# Altium integrated library ek-ra8d2_mp - Customer.IntLib: 133 symbols (part 1 of 2)
Pins are listed as number, name and electrical type; pins without a type are passive.

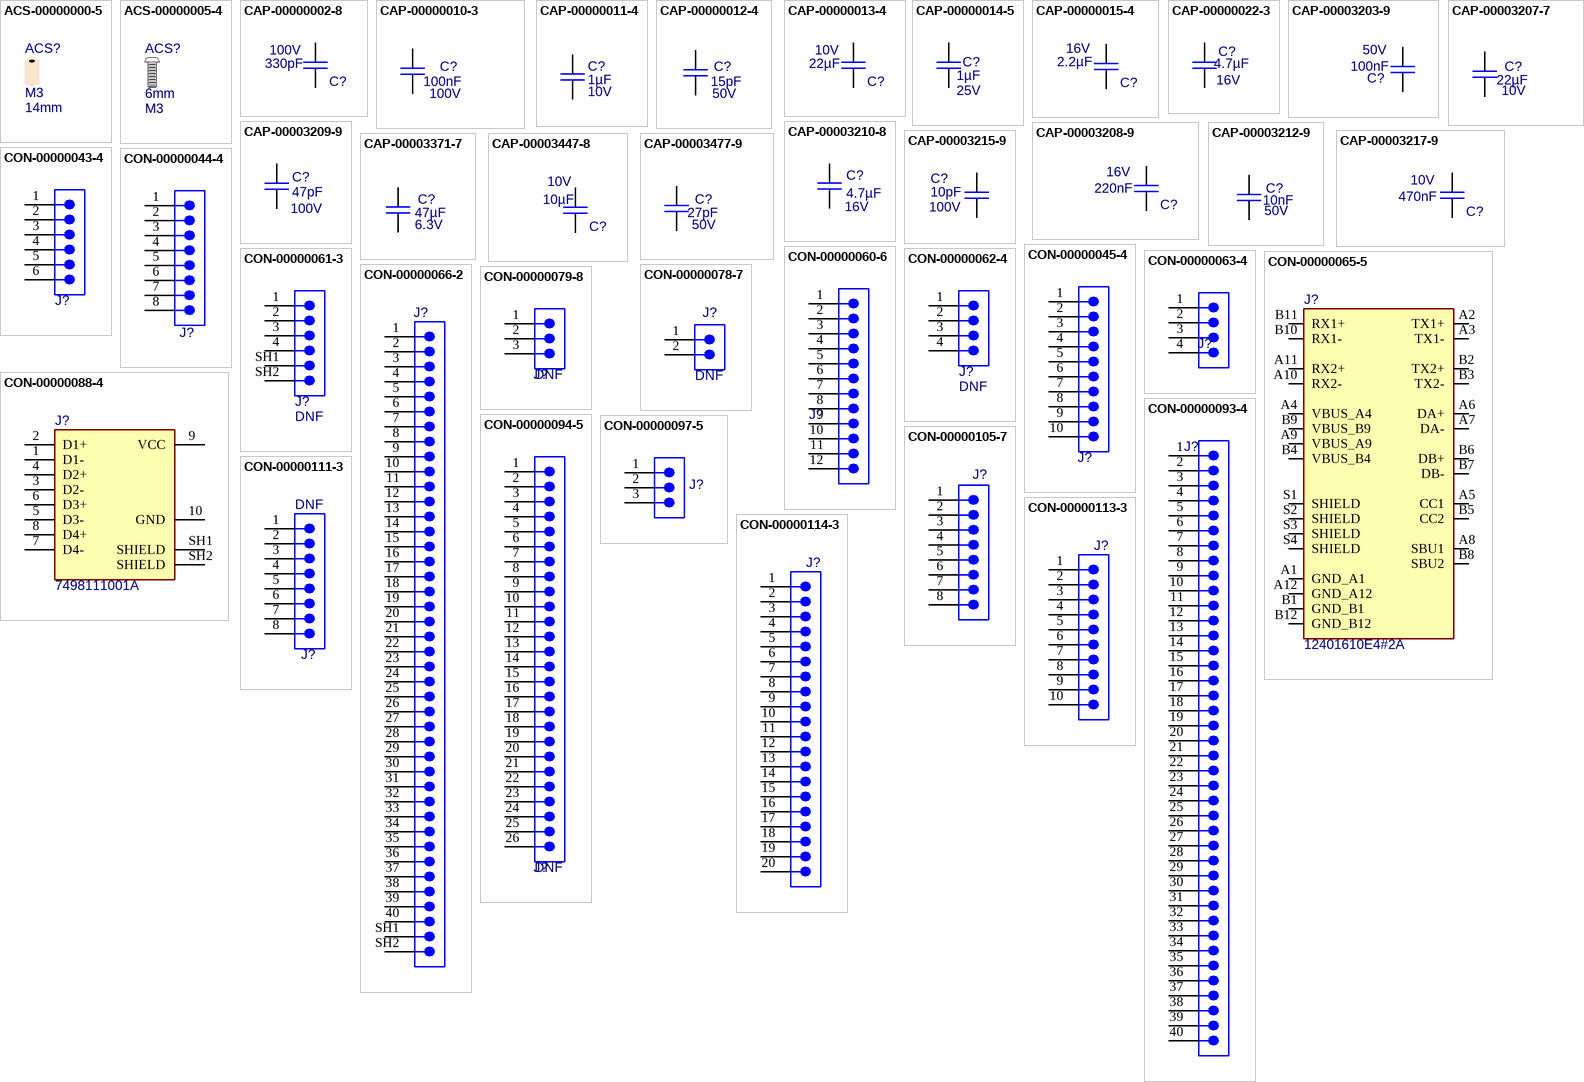
[diagram p0: symbols ACS-00000000-5 to CON-00000114-3]

## ACS-00000000-5
designator ACS?, comment Thread: M3  Length: 14mm  (hidden comment: MTS-14)
Female Standoff; Nylon; Natural; M3; 14.0 mm Spacer; Manufacturer: Essentra; Width: 6mm; Subtype: Spacer; Material: Nylon Black; Manufacturer Part Number: MTS-14; Component Type: Accessory
footprint standoff_6p0_M3x14x0p5_HexFemale (Standoff, M3x0p5, length 14mm, outside diameter 5.5mm)

## ACS-00000005-4
designator ACS?, comment Length: 6mm  Thread: M3  (hidden comment: 50M030050P006)
Pan Phillips Screw, M3x0p5, Length 6mm, Natural, Nylon; Manufacturer: Essentra; Subtype: Screw; Material: Nylon Transparent; Manufacturer Part Number: 50M030050P006; Component Type: Accessory
footprint screw_M3x0p5,6mm (Screw, M3x0p5, length 6mm, outside diameter 5.4mm, Nylon)

## CAP-00000002-8
designator C?, comment value 330pF  Operating Voltage Max: 100V  (hidden comment: GCM155R72A331KA37D)
Capacitor,EIA0402,330p,100V,X7R; Manufacturer: Murata; Tolerance: 10%; Qualification: AEC-Q200; Subtype: MLCC; Dielectric: X7R; Height: 550µm; Operating Temperature Max: 125°C; Operating Temperature Min: -55°C; Manufacturer Part Number: GCM155R72A331KA37D; Component Type: Capacitor
footprint C_EIA0402_0p55 (Chip Capacitor, 2-Leads, Body 1.00x0.50mm, IPC Medium Density)
pins: 1, 2

## CAP-00000010-3
designator C?, comment value 100nF  Operating Voltage Max: 100V  (hidden comment: Capacitor)
Capacitor,EIA1206,100n,100V,C0G; Manufacturer: Murata; Manufacturer Part Number: GCM31C5C2A104JE02L; Tolerance: 5%; Qualification: AEC-Q200; Subtype: MLCC; Dielectric: C0G; Height: 1.8mm; Operating Temperature Max: 125°C; Operating Temperature Min: -55°C; Component Type: Capacitor
footprint C_EIA1206_1p8 (Chip Capacitor, 2-Leads, Body 3.20x1.60mm, IPC Medium Density)
pins: 1, 2

## CAP-00000011-4
designator C?, comment value 1µF  Operating Voltage Max: 10V  (hidden comment: Capacitor)
Capacitor,EA0201,1u,10V,X6S; Manufacturer: Murata; Manufacturer Part Number: GRT033C81A105ME13D; Tolerance: 20%; Qualification: AEC-Q200; Subtype: MLCC; Dielectric: X6S; Height: 390µm; Operating Temperature Max: 105°C; Operating Temperature Min: -55°C; Component Type: Capacitor
footprint C_EIA0201_0p4 (Chip Capacitor, 2-Leads, Body 0.7x0.4mm, IPC Medium Density)
pins: 1, 2

## CAP-00000012-4
designator C?, comment value 15pF  Operating Voltage Max: 50V  (hidden comment: Capacitor)
Capacitor,EIA0201,15p,50V,C0G; Manufacturer: Murata; Manufacturer Part Number: GCM0335C1H150FA16D; Tolerance: 1%; Qualification: AEC-Q200; Subtype: MLCC; Dielectric: C0G; Height: 390µm; Operating Temperature Max: 125°C; Operating Temperature Min: -55°C; Component Type: Capacitor
footprint C_EIA0201_0p4 (Chip Capacitor, 2-Leads, Body 0.7x0.4mm, IPC Medium Density)
pins: 1, 2

## CAP-00000013-4
designator C?, comment value 22µF  Operating Voltage Max: 10V  (hidden comment: Capacitor)
Capacitor,EIA0402,22u,10V,X5R; Manufacturer: Murata; Manufacturer Part Number: GRM158R61A226ME15D; Tolerance: 20%; Subtype: MLCC; Dielectric: X5R; Height: 900µm; Operating Temperature Max: 85°C; Operating Temperature Min: -55°C; Qualification: -; Component Type: Capacitor
footprint C_EIA0402_0p9 (Chip Capacitor, 2-Leads, Body 1.00x0.50mm, IPC Medium Density)
pins: 1, 2

## CAP-00000014-5
designator C?, comment value 1µF  Operating Voltage Max: 25V  (hidden comment: Capacitor)
Capacitor,EIA0402,1u,25V,X6S; Manufacturer: Murata; Manufacturer Part Number: GRT155C81E105KE13D; Tolerance: 10%; Qualification: AEC-Q200; Subtype: MLCC; Dielectric: X6S; Height: 600µm; Operating Temperature Max: 105°C; Operating Temperature Min: -55°C; Component Type: Capacitor
footprint C_EIA0402_0p6 (Chip Capacitor, 2-Leads, Body 1.00x0.50mm, IPC Medium Density)
pins: 1, 2

## CAP-00000015-4
designator C?, comment value 2.2µF  Operating Voltage Max: 16V  (hidden comment: Capacitor)
Capacitor,EIA0402,2.2u,16V,X6S; Manufacturer: Murata; Manufacturer Part Number: GRT155C81C225KE13D; Tolerance: 10%; Qualification: AEC-Q200; Subtype: MLCC; Dielectric: X6S; Height: 700µm; Operating Temperature Max: 105°C; Operating Temperature Min: -55°C; Component Type: Capacitor
footprint C_EIA0402_0p7 (Chip Capacitor, 2-Leads, Body 1.00x0.50mm, IPC Medium Density)
pins: 1, 2

## CAP-00000022-3
designator C?, comment value 4.7µF  Operating Voltage Max: 16V  (hidden comment: KGM05CR51C475MH)
Capacitor, EIA0402, 4.7u, 16V, X5R; Manufacturer: KYOCERA AVX; Tolerance: 20%; Subtype: MLCC; Height: 700µm; Dielectric: X5R; Operating Temperature Min: -55°C; Qualification: -; Operating Temperature Max: 85°C; Manufacturer Part Number: KGM05CR51C475MH; Component Type: Capacitor
footprint C_EIA0402_0p7 (Chip Capacitor, 2-Leads, Body 1.00x0.50mm, IPC Medium Density)
pins: 1, 2

## CAP-00003203-9
designator C?, comment value 100nF  Operating Voltage Max: 50V  (hidden comment: Capacitor)
Capacitor,EIA0402,100n,50V,X7R; Manufacturer: Murata; Manufacturer Part Number: GRT155R71H104KE01D; Tolerance: 10%; Qualification: AEC-Q200; Subtype: MLCC; Dielectric: X7R; Height: 550µm; Operating Temperature Max: 125°C; Operating Temperature Min: -55°C; Component Type: Capacitor
footprint C_EIA0402_0p55 (Chip Capacitor, 2-Leads, Body 1.00x0.50mm, IPC Medium Density)
pins: 1, 2

## CAP-00003207-7
designator C?, comment value 22µF  Operating Voltage Max: 10V  (hidden comment: Capacitor)
Capacitor,EIA1206,22u,10V,X7R; Manufacturer: Murata; Manufacturer Part Number: GCM31CR71A226KE02L; Tolerance: 10%; Qualification: AEC-Q200; Subtype: MLCC; Dielectric: X7R; Height: 1.8mm; Operating Temperature Max: 125°C; Operating Temperature Min: -55°C; Component Type: Capacitor
footprint C_EIA1206_1p8 (Chip Capacitor, 2-Leads, Body 3.20x1.60mm, IPC Medium Density)
pins: 1, 2

## CAP-00003208-9
designator C?, comment value 220nF  Operating Voltage Max: 16V  (hidden comment: Capacitor)
Capacitor,EIA0402,220n,16V,X7R; Manufacturer: Murata; Manufacturer Part Number: GCM155R71C224KE02D; Tolerance: 10%; Qualification: AEC-Q200; Subtype: MLCC; Dielectric: X7R; Height: 550µm; Operating Temperature Max: 125°C; Operating Temperature Min: -55°C; Component Type: Capacitor
footprint C_EIA0402_0p55 (Chip Capacitor, 2-Leads, Body 1.00x0.50mm, IPC Medium Density)
pins: 1, 2

## CAP-00003209-9
designator C?, comment value 47pF  Operating Voltage Max: 100V  (hidden comment: Capacitor)
Capacitor,EIA0402,47p,100V,C0G; Manufacturer: Murata; Manufacturer Part Number: GRT1555C2A470JA02D; Tolerance: 5%; Qualification: AEC-Q200; Subtype: MLCC; Dielectric: C0G; Height: 550µm; Operating Temperature Max: 125°C; Operating Temperature Min: -55°C; Component Type: Capacitor
footprint C_EIA0402_0p55 (Chip Capacitor, 2-Leads, Body 1.00x0.50mm, IPC Medium Density)
pins: 1, 2

## CAP-00003210-8
designator C?, comment value 4.7µF  Operating Voltage Max: 16V  (hidden comment: Capacitor)
Capacitor,EIA0603,4.7u,16V,X7S; Manufacturer: Murata; Manufacturer Part Number: GRT188C71C475KE13D; Tolerance: 10%; Qualification: AEC-Q200; Subtype: MLCC; Dielectric: X7S; Height: 1mm; Operating Temperature Max: 125°C; Operating Temperature Min: -55°C; Component Type: Capacitor
footprint C_EIA0603_1p0 (Chip Capacitor, 2-Leads, Body 1.60x0.80mm, IPC Medium Density)
pins: 1, 2

## CAP-00003212-9
designator C?, comment value 10nF  Operating Voltage Max: 50V  (hidden comment: Capacitor)
Capacitor,EIA0402,10n,50V,X7R; Manufacturer: Murata; Manufacturer Part Number: GCM155R71H103KA55D; Tolerance: 10%; Qualification: AEC-Q200; Subtype: MLCC; Dielectric: X7R; Height: 550µm; Operating Temperature Max: 125°C; Operating Temperature Min: -55°C; Component Type: Capacitor
footprint C_EIA0402_0p55 (Chip Capacitor, 2-Leads, Body 1.00x0.50mm, IPC Medium Density)
pins: 1, 2

## CAP-00003215-9
designator C?, comment value 10pF  Operating Voltage Max: 100V  (hidden comment: Capacitor)
Capacitor,EIA0402,10p,100V,C0G; Manufacturer: Murata; Manufacturer Part Number: GRT1555C2A100JA02D; Tolerance: 5%; Qualification: AEC-Q200; Subtype: MLCC; Dielectric: C0G; Height: 550µm; Operating Temperature Max: 125°C; Operating Temperature Min: -55°C; Component Type: Capacitor
footprint C_EIA0402_0p55 (Chip Capacitor, 2-Leads, Body 1.00x0.50mm, IPC Medium Density)
pins: 1, 2

## CAP-00003217-9
designator C?, comment value 470nF  Operating Voltage Max: 10V  (hidden comment: Capacitor)
Capacitor,EIA0402,470n,10V,X7R; Manufacturer: Murata; Manufacturer Part Number: GRT155R71A474KE01D; Tolerance: 10%; Qualification: AEC-Q200; Subtype: MLCC; Dielectric: X7R; Height: 550µm; Operating Temperature Max: 125°C; Operating Temperature Min: -55°C; Component Type: Capacitor
footprint C_EIA0402_0p55 (Chip Capacitor, 2-Leads, Body 1.00x0.50mm, IPC Medium Density)
pins: 1, 2

## CAP-00003371-7
designator C?, comment value 47µF  Operating Voltage Max: 6.3V  (hidden comment: GRM31CE70J476ME15L)
Capacitor,EIA1206,47u,6.3V,X7U; Manufacturer: Murata; Tolerance: 20%; Subtype: MLCC; Operating Temperature Max: 125°C; Operating Temperature Min: -55°C; Dielectric: X7U; Height: 1.6mm; Qualification: -; Manufacturer Part Number: GRM31CE70J476ME15L; Component Type: Capacitor
footprint C_EIA1206_1p8 (Chip Capacitor, 2-Leads, Body 3.20x1.60mm, IPC Medium Density)
pins: 1, 2

## CAP-00003447-8
designator C?, comment value 10µF  Operating Voltage Max: 10V  (hidden comment: Capacitor)
Capacitor,EIA0402,10u,10V,X5R; Manufacturer: Murata; Manufacturer Part Number: GRM155R61A106ME11D; Tolerance: 20%; Subtype: MLCC; Dielectric: X5R; Height: 700µm; Operating Temperature Max: 85°C; Operating Temperature Min: -55°C; Qualification: -; Component Type: Capacitor
footprint C_EIA0402_0p7 (Chip Capacitor, 2-Leads, Body 1.00x0.50mm, IPC Medium Density)
pins: 1, 2

## CAP-00003477-9
designator C?, comment value 27pF  Operating Voltage Max: 50V  (hidden comment: Capacitor)
Capacitor,EIA0402,27p,50V,C0G; Manufacturer: Yageo Group; Manufacturer Part Number: CC0402JRNPO9BN270; Tolerance: 5%; Subtype: MLCC; Dielectric: C0G; Height: 550µm; Operating Temperature Max: 125°C; Operating Temperature Min: -55°C; Qualification: -; Component Type: Capacitor
footprint C_EIA0402_0p55 (Chip Capacitor, 2-Leads, Body 1.00x0.50mm, IPC Medium Density)
pins: 1, 2

## CON-00000043-4
designator J?, comment NPTC061KFXC-RC  (value not drawn)
Header, 6way, 1 Row, Vertical, 2.54mm, SMD; Manufacturer: Sullins; Current: 3A; Operating Voltage Max: 500V; Gender: female; Operating Temperature Max: 125°C; Qualification: -; Height: 7.75mm; Operating Temperature Min: -40°C; Pin Count: 6; Manufacturer Part Number: NPTC061KFXC-RC; Component Type: Connector
footprint sul_NPTC061KFXC-RC (Header, 6way, 1row, vertical, 2.54mm, SMD)
pins: 1, 2, 3, 4, 5, 6
1 alternate drawing of the same symbol

## CON-00000044-4
designator J?, comment NPTC081KFXC-RC  (value not drawn)
Header, 8way, 1 Row, Vertical, 2.54mm, SMD; Manufacturer: Sullins; Current: 3A; Gender: female; Operating Voltage Max: 500V; Height: 7.75mm; Operating Temperature Min: -40°C; Qualification: -; Pin Count: 8; Operating Temperature Max: 125°C; Manufacturer Part Number: NPTC081KFXC-RC; Component Type: Connector
footprint sul_NPTC081KFXC-RC (Header, 8way, 1row, vertical, 2.54mm, SMD)
pins: 1, 2, 3, 4, 5, 6, 7, 8
1 alternate drawing of the same symbol

## CON-00000045-4
designator J?, comment NPTC101KFXC-RC  (value not drawn)
Header, 10way, 1 Row, Vertical, 2.54mm, SMD; Manufacturer: Sullins; Operating Voltage Max: 500V; Current: 3A; Gender: female; Qualification: -; Operating Temperature Max: 125°C; Height: 7.75mm; Pin Count: 10; Operating Temperature Min: -40°C; Manufacturer Part Number: NPTC101KFXC-RC; Component Type: Connector
footprint sul_NPTC101KFXC-RC (Header, 10way, 1row, vertical, 2.54mm, SMD)
pins: 1, 2, 3, 4, 5, 6, 7, 8, 9, 10
1 alternate drawing of the same symbol

## CON-00000060-6
designator J?, comment SMH-106-02-L-D  (value not drawn)
Socket,12way,2row,horizontal,2.54mm,SMD,PMOD_Interface; Manufacturer: Samtec; Gender: female; Qualification: -; Operating Temperature Max: 125°C; Pin Count: 12; Height: 4.95mm; Operating Temperature Min: -55°C; Manufacturer Part Number: SMH-106-02-L-D; Component Type: Connector
footprint sam_SMH-106-02-LD_PMOD (PMOD-Pinout, Socket Header, Pitch 2.54mm, SMD, Horizontal, dual row, 12p)
footprint sam_SMH-106-02-LD (Socket Header, Pitch 2.54mm, SMD, Horizontal, dual row, 12p)
pins: 1, 2, 3, 4, 5, 6, 7, 8, 9, 10, 11, 12
2 alternate drawings of the same symbol

## CON-00000061-3
designator J?, comment SM04B-SRSS-TB(LF)(SN)  (value not drawn)
Wire-to-Board Header,4way, Single Row, Right-Angle, SMD; Manufacturer: JST; DC Resistance: 20m; Gender: female; Current: 1A; Operating Voltage Max: 50V; Height: 3mm; Qualification: -; Operating Temperature Max: 85°C; Pin Count: 6; Operating Temperature Min: -25°C; DNF: DNF; Manufacturer Part Number: SM04B-SRSS-TB(LF)(SN); Component Type: Connector
footprint jst_SM04B-SRSS-TB(LF)(SN) (Shrouded Header, 4-way, 1 row, vertical, 1mm, SMT)
pins: 1, 2, 3, 4, SH1 SH2, SH2
1 alternate drawing of the same symbol

## CON-00000062-4
designator J?, comment 110990037  (value not drawn)
Grove Header,4Way,1 Row, Horizontal,2mm,THT; Manufacturer: Seeed Studio; Current: 1.5A; Gender: male; Operating Voltage Max: 100V; Qualification: -; Operating Temperature Min: -25°C; Pin Count: 4; Height: 5.1mm; Operating Temperature Max: 85°C; DNF: DNF; Manufacturer Part Number: 110990037; Component Type: Connector
footprint sed_110990037 (Grove Header, 4way, 1row, 2mm, Male, THT)
pins: 1, 2, 3, 4
1 alternate drawing of the same symbol

## CON-00000063-4
designator J?, comment 57202-G52-02ALF  (value not drawn)
Header,4way,2row,vertical,2mm,SMD; Manufacturer: Amphenol Communications Solutions; Current: 2A; Operating Voltage Max: 200V; Gender: male; DC Resistance: 20m; Operating Temperature Min: -55°C; Pin Count: 4; Height: 6.83mm; Qualification: -; Operating Temperature Max: 125°C; Manufacturer Part Number: 57202-G52-02ALF; Component Type: Connector
footprint amp_57202-G52-02ALF (Header, 4way, 2row, vertical, 2.00mm, SMT)
pins: 1, 2, 3, 4
1 alternate drawing of the same symbol

## CON-00000065-5
designator J?, comment 12401610E4#2A
Connector USB 3.2 Gen2 Type C Horizontal SMD; Manufacturer: Amphenol Commercial; Gender: female; Current: 5A; Operating Voltage Max: 20V; Pin Count: 24; Operating Temperature Max: 85°C; Qualification: -; Operating Temperature Min: -40°C; Height: 3.43mm; Manufacturer Part Number: 12401610E4#2A; Component Type: Connector
footprint amp_12401610E42A (AMPHENOL USB3.2 Gen2 Type-C 12401610E42A)
pins: A1 GND_A1, A2 TX1+, A3 TX1-, A4 VBUS_A4, A5 CC1, A6 DA+, A7 DA-, A8 SBU1, A9 VBUS_A9, A10 RX2-, A11 RX2+, A12 GND_A12, B1 GND_B1, B2 TX2+, B3 TX2-, B4 VBUS_B4, B5 CC2, B6 DB+, B7 DB-, B8 SBU2, B9 VBUS_B9, B10 RX1-, B11 RX1+, B12 GND_B12, S1 SHIELD, S2 SHIELD, S3 SHIELD, S4 SHIELD

## CON-00000066-2
designator J?, comment 505110-4091  (value not drawn)
FFC/FPC Connector, 40 Contact(s), 1 Row(s), Female, Right Angle, 0.019 inch Pitch, Surface Mount Terminal, Locking, Beige Insulator; Manufacturer: Molex; Operating Voltage Max: 50V; Current: 500mA; Operating Temperature Max: 105°C; Gender: female; Qualification: -; Pin Count: 42; Height: 1.9mm; Operating Temperature Min: -40°C; Manufacturer Part Number: 505110-4091; Component Type: Connector
footprint mol_505110-4091 (FFC/FPC Connector, 40way,Pitch 0.50mm, Right Angle, SMD)
pins: 1, 2, 3, 4, 5, 6, 7, 8, 9, 10, 11, 12, 13, 14, 15, 16, 17, 18, 19, 20, 21, 22, 23, 24, 25, 26, 27, 28, 29, 30, 31, 32, 33, 34, 35 36, 36, 37, 38, 39, 40, SH1, SH2
1 alternate drawing of the same symbol

## CON-00000078-7
designator J?, comment NRPN021PAEN-RC  (value not drawn)
Header, 2way, 1row, vertical, 2.00mm, THT; Manufacturer: Sullins; Operating Voltage Max: 150V; Gender: male; DC Resistance: 20m; Current: 1A; Operating Temperature Max: 105°C; Height: 5.95mm; Operating Temperature Min: -40°C; Pin Count: 2; Qualification: -; DNF: DNF; Manufacturer Part Number: NRPN021PAEN-RC; Component Type: Connector
footprint sul_NRPN021PAEN-RC (Header, 2way, 1row, vertical, 2.00 mm, THT)
pins: 1, 2
2 alternate drawings of the same symbol

## CON-00000079-8
designator J?, comment NRPN031PAEN-RC  (value not drawn)
Header, 3way, 1row, vertical, 2.00mm, THT; Manufacturer: Sullins; Gender: male; Operating Voltage Max: 150V; Current: 1A; DC Resistance: 20m; Operating Temperature Max: 105°C; Pin Count: 3; Operating Temperature Min: -40°C; Qualification: -; Height: 5.95mm; DNF: DNF; Manufacturer Part Number: NRPN031PAEN-RC; Component Type: Connector
footprint sul_NRPN031PAEN-RC (Header, 3way, 1row, vertical, 2.00 mm, THT)
pins: 1, 2, 3

## CON-00000088-4
designator J?, comment 7498111001A
10/100/1000 Ethernet Jack, RJ45, Right Angle SMT, No LEDs; Manufacturer: Wurth Elektronik; Gender: female; Operating Temperature Min: -40°C; Qualification: -; Operating Temperature Max: 85°C; Pin Count: 10; Height: 13.55mm; Manufacturer Part Number: 7498111001A; Component Type: Connector
footprint wue_7498111001A (LAN-Transformer WE-RJ45LAN, 1000BaseT, Body 21.6x15.88mm)
pins: 1 D1-, 2 D1+, 3 D2-, 4 D2+, 5 D3-, 6 D3+, 7 D4-, 8 D4+, 9 VCC, 10 GND, SH1 SHIELD (power), SH2 SHIELD (power)

## CON-00000093-4
designator J?, comment 95157-240LF  (value not drawn)
Header,40way,2row,vertical,2.54mm,SMT; Manufacturer: Amphenol Communications Solutions; Current: 3A; Gender: male; Height: 9.98mm; Operating Temperature Max: 125°C; Operating Temperature Min: -65°C; Pin Count: 40; Qualification: -; Manufacturer Part Number: 95157-240LF; Component Type: Connector
footprint amp_95157-240LF (Pin Header, pitch 2.54mm, SMD, Vertical, double row, 20p)
pins: 1, 2, 3, 4, 5, 6, 7, 8, 9, 10, 11, 12, 13, 14, 15, 16, 17, 18, 19, 20, 21, 22, 23, 24, 25, 26, 27, 28, 29, 30, 31, 32, 33, 34, 35 36, 36, 37, 38, 39, 40
1 alternate drawing of the same symbol

## CON-00000094-5
designator J?, comment NRPN132PAEN-RC  (value not drawn)
Header,26way,2row,vertical,2.00mm,THT; Manufacturer: Sullins; Operating Voltage Max: 150V; DC Resistance: 20m; Gender: male; Current: 2A; Pin Count: 26; Operating Temperature Max: 105°C; Operating Temperature Min: -40°C; Qualification: -; Height: 8.8mm; DNF: DNF; Manufacturer Part Number: NRPN132PAEN-RC; Component Type: Connector
footprint sul_NRPN132PAEN-RC (Header, 26way, 2row, vertical, 2.00mm, THT)
pins: 1, 2, 3, 4, 5, 6, 7, 8, 9, 10, 11, 12, 13, 14, 15, 16, 17, 18, 19, 20, 21, 22, 23, 24, 25, 26
1 alternate drawing of the same symbol

## CON-00000097-5
designator J?, comment 2842102-3  (value not drawn)
Header, 3way, 1row, vertical, 2.00mm, SMD; Manufacturer: TE Connectivity; Gender: male; Current: 2A; Operating Voltage Max: 125V; Operating Temperature Max: 125°C; Pin Count: 3; Height: 6.55mm; Qualification: -; Operating Temperature Min: -40°C; Manufacturer Part Number: 2842102-3; Component Type: Connector
footprint tec_2842102-3 (Header, 3way, 1row, vertical, 2.00mm, SMD)
pins: 1, 2, 3

## CON-00000105-7
designator J?, comment NRPN042MAMS-RC  (value not drawn)
Header, 8way, 2row, vertical, 2.0mm, SMD; Manufacturer: Sullins; DC Resistance: 20m; Operating Voltage Max: 150V; Current: 2A; Gender: male; Pin Count: 8; Operating Temperature Min: -40°C; Height: 6.2mm; Qualification: -; Operating Temperature Max: 105°C; Manufacturer Part Number: NRPN042MAMS-RC; Component Type: Connector
footprint sul_NRPN042MAMS-RC (Header, 8way, 2row, vertical, 2.00mm, SMD)
pins: 1, 2, 3, 4, 5, 6, 7, 8
1 alternate drawing of the same symbol

## CON-00000111-3
designator J?, comment CES-108-01-T-S  (value not drawn)
Socket,8way,1row,vertical,2.54mm,THT; Manufacturer: Samtec; Operating Voltage Max: 400V; Current: 5.5A; Gender: female; DC Resistance: 10m; Operating Temperature Min: -55°C; Height: 8.35mm; Qualification: -; Operating Temperature Max: 105°C; Pin Count: 8; DNF: DNF; Manufacturer Part Number: CES-108-01-T-S; Component Type: Connector
footprint sam_CES-108-01-T-S (Socket Header, Pitch 2.54 mm, THT, Vertical, single row, 8p)
pins: 1, 2, 3, 4, 5, 6, 7, 8
1 alternate drawing of the same symbol

## CON-00000113-3
designator J?, comment FTSH-105-01-F-DV-K-TR  (value not drawn)
Header,10way,2row,vertical,1.27mm,SMD; Manufacturer: Samtec; Gender: male; Current: 3.4A; Operating Temperature Max: 125°C; Height: 6.12mm; Pin Count: 10; Operating Temperature Min: -55°C; Qualification: -; Manufacturer Part Number: FTSH-105-01-F-DV-K-TR; Component Type: Connector
footprint sam_FTSH-105-01-F-DV-K-TR (Header,10way,2row,vertical,Pitch 1.27mm)
pins: 1, 2, 3, 4, 5, 6, 7, 8, 9, 10
1 alternate drawing of the same symbol

## CON-00000114-3
designator J?, comment FTSH-110-01-F-DV-K-TR  (value not drawn)
Header,20way,2row,vertical,1.27mm,SMD,gold flash on post; Manufacturer: Samtec; Gender: male; Current: 3.4A; Operating Temperature Max: 125°C; Qualification: -; Height: 6.12mm; Operating Temperature Min: -55°C; Pin Count: 20; Manufacturer Part Number: FTSH-110-01-F-DV-K-TR; Component Type: Connector
footprint sam_FTSH-110-01-L-DV-K-TR (Header, 20way, 2row, vertical, Pitch 1.27mm)
pins: 1, 2, 3, 4, 5, 6, 7, 8, 9, 10, 11, 12, 13, 14, 15, 16, 17, 18, 19, 20
1 alternate drawing of the same symbol

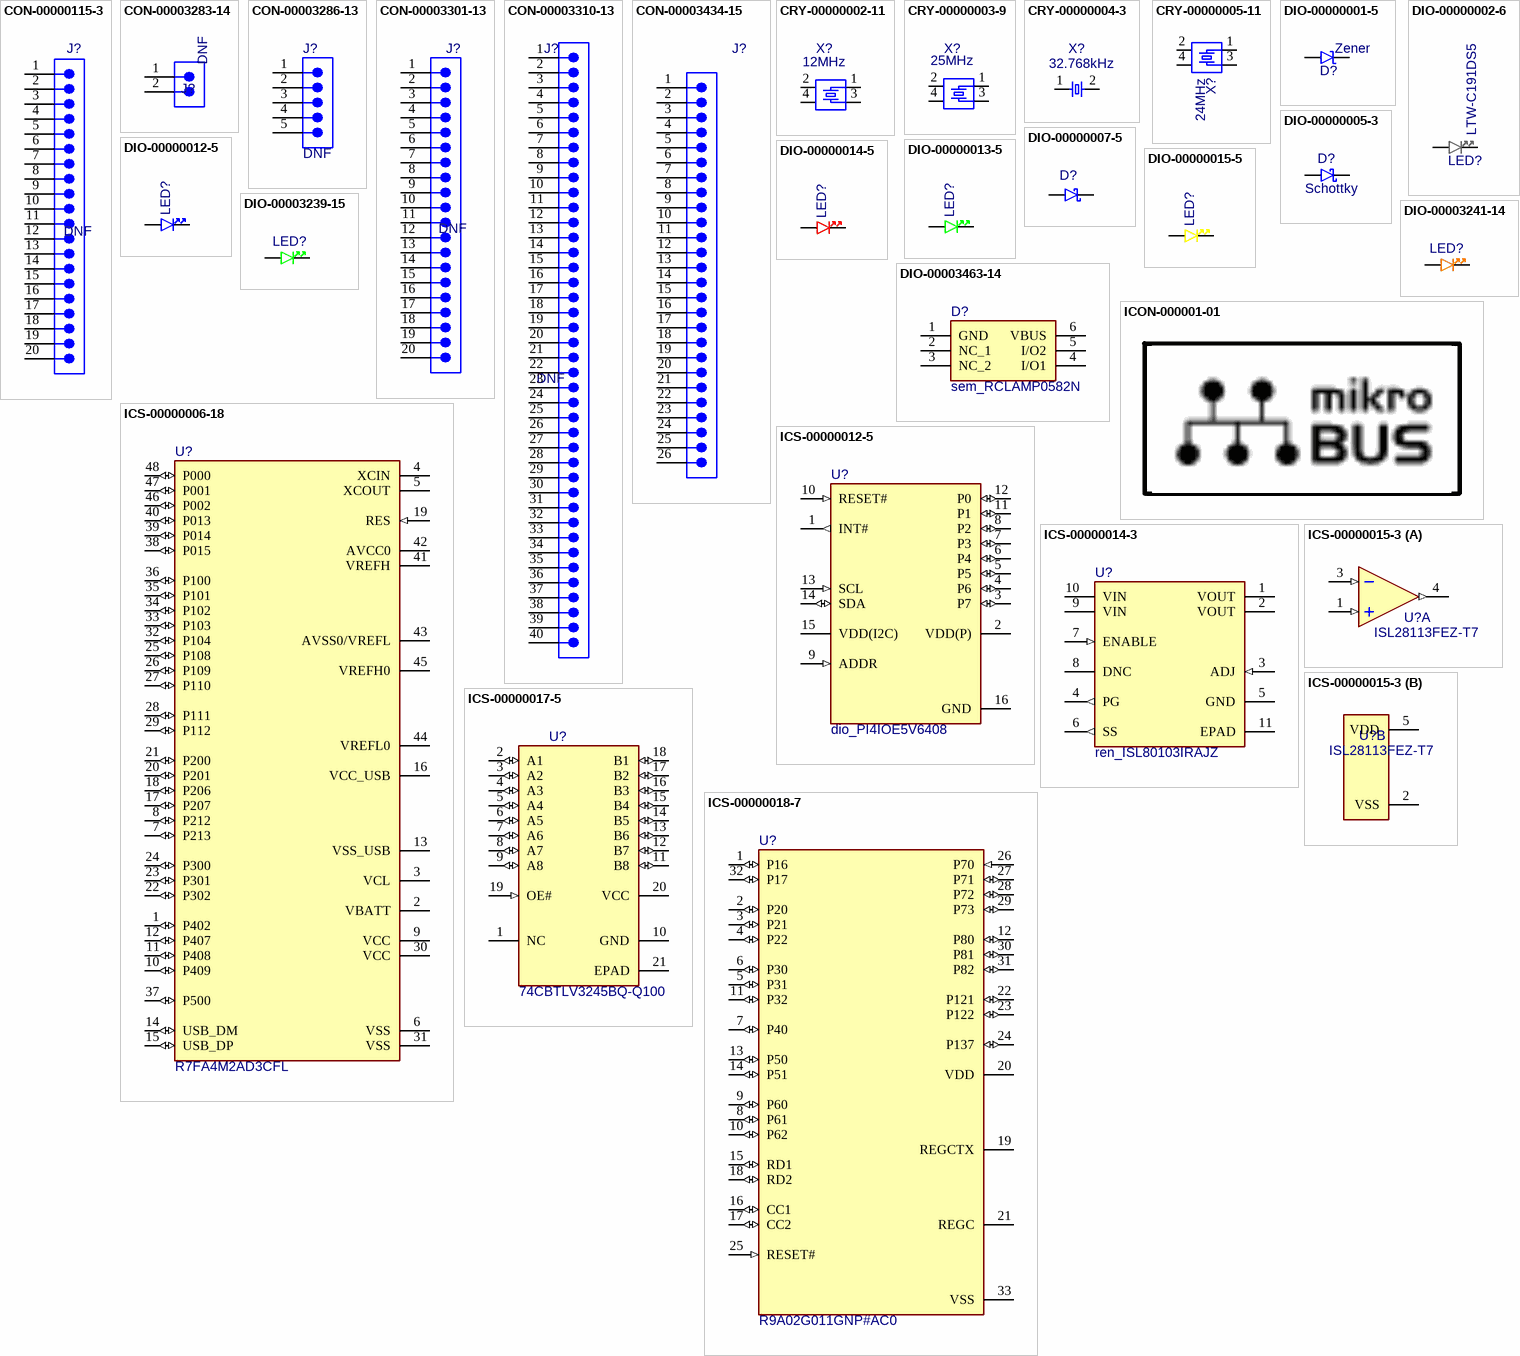
[diagram p1: symbols CON-00000115-3 to ICS-00000018-7]

## CON-00000115-3
designator J?, comment 62002021121  (value not drawn)
Header,20way,2row,vertical,2.00mm,THT; Manufacturer: Wurth Elektronik; DC Resistance: 20m; Operating Voltage Max: 200V; Gender: male; Current: 2A; Operating Temperature Min: -40°C; Pin Count: 20; Height: 6.45mm; Operating Temperature Max: 105°C; Qualification: -; DNF: DNF; Manufacturer Part Number: 62002021121; Component Type: Connector
footprint wue_62002021121 (Header, 20way, 2row, vertical, 2.00mm, THT)
pins: 1, 2, 3, 4, 5, 6, 7, 8, 9, 10, 11, 12, 13, 14, 15, 16, 17, 18, 19, 20
1 alternate drawing of the same symbol

## CON-00003283-14
designator J?, comment 61300211121  (value not drawn)
Header,2way,1row,vertical,2.54mm,THT; Manufacturer: Wurth Elektronik; Gender: male; Current: 3A; DC Resistance: 20m; Operating Voltage Max: 250V; Height: 8.89mm; Operating Temperature Min: -40°C; Operating Temperature Max: 105°C; Qualification: -; Pin Count: 2; DNF: DNF; Manufacturer Part Number: 61300211121; Component Type: Connector
footprint wue_61300211121 (Pin Header, pitch 2.54 mm, THT, Vertical, single row, 2p)
pins: 1, 2
2 alternate drawings of the same symbol

## CON-00003286-13
designator J?, comment CON_005  (value not drawn)
Header,5way,1row,vertical,2.54mm,THT; Manufacturer: Wurth Elektronik; Manufacturer Part Number: 61300511121; Current: 3A; DC Resistance: 20m; Gender: male; Operating Voltage Max: 250V; Height: 8.89mm; Operating Temperature Max: 105°C; Operating Temperature Min: -40°C; Pin Count: 5; Qualification: -; DNF: DNF; Component Type: Connector
footprint wue_61300511121 (Pin Header, pitch 2.54 mm, THT, Vertical, single row, 5p)
pins: 1, 2, 3, 4, 5

## CON-00003301-13
designator J?, comment CON_020  (value not drawn)
Header,20way,2row,vertical,2.54mm,THT; Manufacturer: Wurth Elektronik; Manufacturer Part Number: 61302021121; Current: 3A; DC Resistance: 20m; Gender: male; Operating Voltage Max: 250V; Height: 8.89mm; Operating Temperature Max: 105°C; Operating Temperature Min: -40°C; Pin Count: 20; Qualification: -; DNF: DNF; Component Type: Connector
footprint wue_61302021121 (Pin Header, pitch 2.54 mm, THT, Vertical, dual row, 20p)
pins: 1, 2, 3, 4, 5, 6, 7, 8, 9, 10, 11, 12, 13, 14, 15, 16, 17, 18, 19, 20
1 alternate drawing of the same symbol

## CON-00003310-13
designator J?, comment CON_040  (value not drawn)
Header,40way,2row,vertical,2.54mm,THT; Manufacturer: Wurth Elektronik; Manufacturer Part Number: 61304021121; Current: 3A; DC Resistance: 20m; Gender: male; Operating Voltage Max: 250V; Height: 8.89mm; Operating Temperature Max: 105°C; Operating Temperature Min: -40°C; Pin Count: 40; Qualification: -; DNF: DNF; Component Type: Connector
footprint wue_61304021121 (Pin Header, pitch 2.54 mm, THT, Vertical, dual row, 40p)
pins: 1, 2, 3, 4, 5, 6, 7, 8, 9, 10, 11, 12, 13, 14, 15, 16, 17, 18, 19, 20, 21, 22, 23, 24, 25, 26, 27, 28, 29, 30, 31, 32, 33, 34, 35 36, 36, 37, 38, 39, 40
1 alternate drawing of the same symbol

## CON-00003434-15
designator J?, comment CON_026  (value not drawn)
Edge Rate Rugged High Speed Socket/Terminal Strip; Manufacturer: Samtec; Manufacturer Part Number: ERF8-013-05.0-L-DV-TR; Gender: female; Current: 1.4A; DC Resistance: 15m; Operating Voltage Max: 225V; Height: 5.1mm; Operating Temperature Max: 125°C; Operating Temperature Min: -55°C; Pin Count: 26; Qualification: -; Component Type: Connector
footprint sam_ERF8-013-05.0-L-DV-TR (Board to Board & Mezzanine Connectors 0.80 mm Edge Rate Rugged High Speed Socket)
pins: 1, 2, 3, 4, 5, 6, 7, 8, 9, 10, 11, 12, 13, 14, 15, 16, 17, 18, 19, 20, 21, 22, 23, 24, 25, 26
1 alternate drawing of the same symbol

## CRY-00000002-11
designator X?, comment value 12MHz  (hidden comment: ECS-120-10-36B-CWY-TR)
Crystal, 12.000MHz, 10 pF, 2.5x2; Manufacturer: ECS International; Load Capacitance: 10pF; Temperature Coefficient: 15ppm; Tolerance: 10ppm; Height: 600µm; Operating Temperature Max: 85°C; Operating Temperature Min: -30°C; Qualification: -; Subtype: Crystal; Manufacturer Part Number: ECS-120-10-36B-CWY-TR; Component Type: Crystal,Oscillator
footprint ecs_ECX-2236B (ECS ECX-2236B, 4-Leads, Body 2.5x2mm, IPC Medium Intensity)
pins: 1, 2, 3, 4
1 alternate drawing of the same symbol

## CRY-00000003-9
designator X?, comment value 25MHz  (hidden comment: ECS-250-10-37B-CTN-TR)
Crystal, 25.000MHz, 10 pF, 2x1.6; Manufacturer: ECS International; Load Capacitance: 10pF; Tolerance: 10ppm; Height: 500µm; Operating Temperature Max: 85°C; Operating Temperature Min: -40°C; Qualification: -; Subtype: Crystal; Manufacturer Part Number: ECS-250-10-37B-CTN-TR; Component Type: Crystal,Oscillator
footprint ecs-ECX-1637B (ECS ECX-1637B, 4-Leads, Body 2x1.6mm, IPC Medium Intensity)
pins: 1, 2, 3, 4
1 alternate drawing of the same symbol

## CRY-00000004-3
designator X?, comment value 32.768kHz  (hidden comment: ABS07-32.768KHZ-9-T)
Crystal, 32.768kHz, 12.5pF, 3.2x1.5; Manufacturer: Abracon; Load Capacitance: 9pF; Tolerance: 20ppm; Operating Temperature Min: -40°C; Temperature Coefficient: -; Qualification: -; Subtype: Crystal; Operating Temperature Max: 85°C; Height: 900µm; Manufacturer Part Number: ABS07-32.768KHZ-9-T; Component Type: Crystal,Oscillator
footprint ABR_ABS07 (ABRACON ABS07 Series, 2-Leads, Body 3.2x1.5mm, IPC Medium Intensity)
pins: 1, 2

## CRY-00000005-11
designator X?, comment value 24MHz  (hidden comment: FL2400022)
Crystal, 24MHz, 10pF, 3.2x2.5; Manufacturer: Diodes Inc.; Tolerance: 10ppm; Height: 650µm; Load Capacitance: 10pF; Operating Temperature Max: -25°C; Operating Temperature Min: 85°C; Qualification: -; Subtype: Crystal; Manufacturer Part Number: FL2400022; Component Type: Crystal,Oscillator
footprint dio_FL (Diodes Inc FL Series, 4-Leads, Body 3.2x2.5mm, IPC Medium Intensity)
pins: 1, 2, 3, 4
1 alternate drawing of the same symbol

## DIO-00000001-5
designator D?, comment Zener
ESD Suppressor Diode TVS Uni-Dir 22V 55Vc Automotive 2-Pin SGP T/R; Manufacturer: Semtech; Manufacturer Part Number: UCLAMP2271P.TNT; Qualification: AEC-Q100; Height: 550µm; Operating Temperature Max: 125°C; Operating Temperature Min: -40°C; Reverse Voltage: 22V; Subtype: ESD; Component Type: Diode
footprint sem_SGP-2_SGP1610N2 (Semtech SGP, 2-Leads, Body 1,00x1,60mm, Pitch 1,10mm, IPC Medium Density)
pins: 1 K, 2 A

## DIO-00000002-6
designator LED?, comment LTW-C191DS5
Standard LEDs, SMD Ultra Bright White; Manufacturer: Lite-On; Current: 5mA; Forward Voltage: 3.15V; Power: 72mW; Reverse Voltage: 5V; Subtype: LED; Height: 550µm; Operating Temperature Max: 85°C; Operating Temperature Min: -30°C; Qualification: -; Manufacturer Part Number: LTW-C191DS5; Component Type: Diode
footprint led_0603_w (WHITE 0603 LED , Body 2.30x0.80mm, IPC Medium Density)
pins: 1 K, 2 A

## DIO-00000005-3
designator D?, comment Schottky
Rectifier Diode, Schottky, 1 Phase, 1 Element, 1A, 40V V(RRM), Silicon; Manufacturer: ROHM; Manufacturer Part Number: RB168MM-40TFTR; Forward Voltage: 600mV; Qualification: AEC-Q101; Current: 1A; Height: 900µm; Operating Temperature Max: 150°C; Operating Temperature Min: -55°C; Reverse Voltage: 40V; Subtype: Schottky; Component Type: Diode
footprint roh_sod-123fl_pmdu (SODFL, 2-Leads, Body 1,60x3,50mm, IPC Medium Density)
pins: 1 K, 2 A

## DIO-00000007-5
designator D?, comment B340AQ-13-F  (value not drawn)
Rectifier Diode, Schottky, 1 Phase, 1 Element, 3A, 40V V(RRM), Silicon; Manufacturer: Diodes Inc.; Forward Voltage: 500mV; Power: 850mW; Qualification: AEC-Q101; Subtype: Schottky; Height: 2.4mm; Operating Temperature Min: -55°C; Reverse Voltage: 40V; Operating Temperature Max: 150°C; Current: 3A; Manufacturer Part Number: B340AQ-13-F; Component Type: Diode
footprint dio_SMA (Diodes Inc, SMA, Body 4,30x2,61mm, IPC Medium Density)
pins: 1 K, 2 A

## DIO-00000012-5
designator LED?, comment 150060BS75000  (value not drawn)
Standard LEDs - SMD Blue, 470nm 90 to 145 mcd; Manufacturer: Wurth Elektronik; Reverse Voltage: 5V; Current: 30mA; Subtype: LED; Forward Voltage: 3.2V; Qualification: -; Height: 800µm; Operating Temperature Max: 85°C; Operating Temperature Min: -40°C; Manufacturer Part Number: 150060BS75000; Component Type: Diode
footprint led_0603_b (BLUE 0603 LED , Body 1.30x0.80mm, IPC Medium Density)
pins: 1 K, 2 A

## DIO-00000013-5
designator LED?, comment 150060GS75000  (value not drawn)
Standard LEDs - SMD Green, 525nm 220 to 430 mcd; Manufacturer: Wurth Elektronik; Subtype: LED; Forward Voltage: 3.2V; Current: 30mA; Reverse Voltage: 5V; Operating Temperature Min: -40°C; Operating Temperature Max: 85°C; Height: 800µm; Qualification: -; Manufacturer Part Number: 150060GS75000; Component Type: Diode
footprint led_0603_g (GREEN 0603 LED , Body 1.30x0.80mm, IPC Medium Density)
pins: 1 K, 2 A

## DIO-00000014-5
designator LED?, comment 150060RS75000  (value not drawn)
Standard LEDs - SMD Red, 625nm 120 to 250 mcd; Manufacturer: Wurth Elektronik; Reverse Voltage: 5V; Current: 30mA; Subtype: LED; Forward Voltage: 2V; Operating Temperature Min: -40°C; Qualification: -; Height: 800µm; Operating Temperature Max: 85°C; Manufacturer Part Number: 150060RS75000; Component Type: Diode
footprint led_0603_r (RED 0603 LED , Body 1.30x0.80mm, IPC Medium Density)
pins: 1 K, 2 A

## DIO-00000015-5
designator LED?, comment 150060YS75000  (value not drawn)
Standard LEDs - SMD Yellow, 590nm 90 to 120 mcd; Manufacturer: Wurth Elektronik; Subtype: LED; Reverse Voltage: 5V; Current: 30mA; Forward Voltage: 2V; Operating Temperature Min: -40°C; Height: 800µm; Qualification: -; Operating Temperature Max: 85°C; Manufacturer Part Number: 150060YS75000; Component Type: Diode
footprint led_0603_y (YELLOW 0603 LED , Body 1.30x0.80mm, IPC Medium Density)
pins: 1 K, 2 A

## DIO-00003239-15
designator LED?, comment LG L29K-G2J1-24  (value not drawn)
Standard LEDs - SMD Green, 570nm 2.2 to 5.6 mcd; Manufacturer: Osram; Current: 2mA; Forward Voltage: 1.7V; Qualification: AEC-Q101; Reverse Voltage: 12V; Subtype: LED; Height: 650µm; Operating Temperature Max: 100°C; Operating Temperature Min: -40°C; Manufacturer Part Number: LGL29K-G2J1-24; Component Type: Diode
footprint led_0603_g (GREEN 0603 LED , Body 1.30x0.80mm, IPC Medium Density)
pins: 1 K, 2 A

## DIO-00003241-14
designator LED?, comment LO L29K-H2L1-24  (value not drawn)
Standard LEDs - SMD Orange, 606nm 3.55 to 14 mcd; Manufacturer: Osram Opto; Qualification: AEC-Q101; Reverse Voltage: 12V; Current: 2mA; Subtype: LED; Forward Voltage: 1.8V; Operating Temperature Min: -40°C; Operating Temperature Max: 100°C; Height: 650µm; Manufacturer Part Number: LOL29K-H2L1-24; Component Type: Diode
footprint led_0603_o (ORANGE 0603 LED , Body 1.30x0.80mm, IPC Medium Density)
pins: 1 K, 2 A

## DIO-00003463-14
designator D?, comment sem_RCLAMP0582N
Low Capacitance TVS Diode Array; Manufacturer: Semtech; Manufacturer Part Number: RCLAMP0582N.TCT; Qualification: AEC-Q100; Reverse Voltage: 6.5V; Subtype: ESD; Height: 580µm; Operating Temperature Max: 125°C; Operating Temperature Min: -40°C; Component Type: Diode
footprint sem_SLP-6_SLP1210N6 (Semtech SLP, 6-Leads, Body 1.2x1.0x0.58mm, Pitch 0.4mm, IPC Medium Density)
pins: 1 GND, 2 NC_1, 3 NC_2, 4 I/O1, 5 I/O2, 6 VBUS

## ICON-000001-01
designator X??, comment Icon-mikroBUS  (value not drawn)  (graphical)
mikroBUS footprint silkscreen
footprint ICON-MIKROBUS (mikroBUS silkscreen)

## ICS-00000006-18
designator U?, comment R7FA4M2AD3CFL
Renesas RA4M2 32-bit MCU, ARM Cortex-M33, 100MHz, 512kB Flash, 128 kB RAM, 48-pin LQFP package (used for J-Link onboard debug i/f); Manufacturer Part Number: R7FA4M2AD3CFL#AA0; Operating Voltage Min: 2.7V; Subtype: MCU/MPU; Current: 65mA; Operating Voltage Max: 3.6V; Qualification: -; Operating Temperature Max: 105°C; Frequency: 100MHz; Operating Temperature Min: -40°C; Pin Count: 48; Manufacturer: Renesas; Component Type: Integrated Circuit
footprint ren_LQFP-48_PLQP0048KB-B (LQFP, 48-Leads, Body 7,00x7,00mm, Pitch 0,50mm, IPC Medium Density)
pins: 1 P402 (io), 2 VBATT (power), 3 VCL (power), 4 XCIN, 5 XCOUT, 6 VSS (power), 7 P213 (io), 8 P212 (io), 9 VCC (power), 10 P409 (io), 11 P408 (io), 12 P407 (io), 13 VSS_USB (power), 14 USB_DM (io), 15 USB_DP (io), 16 VCC_USB (power), 17 P207 (io), 18 P206 (io), 19 RES (in), 20 P201 (io), 21 P200 (io), 22 P302 (io), 23 P301 (io), 24 P300 (io), 25 P108 (io), 26 P109 (io), 27 P110 (io), 28 P111 (io), 29 P112 (io), 30 VCC (power), 31 VSS (power), 32 P104 (io), 33 P103 (io), 34 P102 (io), 35 P101 (io), 36 P100 (io), 37 P500 (io), 38 P015 (io), 39 P014 (io), 40 P013 (io), 41 VREFH (power), 42 AVCC0 (power), 43 AVSS0/VREFL (power), 44 VREFL0 (power), 45 VREFH0 (power), 46 P002 (io), 47 P001 (io), 48 P000 (io)

## ICS-00000012-5
designator U?, comment dio_PI4IOE5V6408
Low-voltage translating 8-bit I2C-bus I/O Expander; Manufacturer: Diodes Inc.; Manufacturer Part Number: PI4IOE5V6408ZTAEX; Current: 300µA; Operating Voltage Max: 4V; Operating Voltage Min: 1.65V; Output Voltage Min: 0V; Subtype: Digital; Operating Temperature Max: -40°C; Operating Temperature Min: 85°C; Output Voltage Max: 4V; Pin Count: 16; Qualification: -; Component Type: Integrated Circuit
footprint dio_uqfn-16_zta16 (UQFN, 16-Leads, Body 1,80x2,60mm, Pitch 0,40mm, IPC Medium Density, ZTA16)
pins: 1 INT# (out), 2 VDD(P) (power), 3 P7 (io), 4 P6 (io), 5 P5 (io), 6 P4 (io), 7 P3 (io), 8 P2 (io), 9 ADDR (in), 10 RESET# (in), 11 P1 (io), 12 P0 (io), 13 SCL (in), 14 SDA (io), 15 VDD(I2C) (power), 16 GND (power)

## ICS-00000014-3
designator U?, comment ren_ISL80103IRAJZ
High Performance 3A Linear Regulator; Manufacturer: Renesas; Operating Voltage Max: 6V; Operating Voltage Min: 2.2V; Output Voltage Max: 5.5V; Output Voltage Min: 800mV; Subtype: Power; Current: 3A; Operating Temperature Max: 125°C; Operating Temperature Min: -40°C; Pin Count: 10; Qualification: -; Manufacturer Part Number: ISL80103IRAJZ; Component Type: Integrated Circuit
footprint ren_tdfn10_L10.3X3 (QFN, 10-Leads, Body 3,00x3,00mm, Pitch 0,50mm, Thermal Pad 1,60x2,00mm, IPC Medium Density)
pins: 1 VOUT (power), 2 VOUT (power), 3 ADJ (in), 4 PG (out), 5 GND (power), 6 SS (out), 7 ENABLE (in), 8 DNC (hiz), 9 VIN (power), 10 VIN (power), 11 EPAD (power)

## ICS-00000015-3
designator U?, comment ISL28113FEZ-T7
Single, General Purpose Micropower, RRIO Operational Amplifier; Manufacturer: Renesas; Frequency: 2MHz; Operating Voltage Max: 5.5V; Operating Voltage Min: 1.8V; Subtype: Power; Operating Temperature Max: 125°C; Operating Temperature Min: -40°C; Output Voltage Max: 5.5V; Pin Count: 5; Qualification: -; Manufacturer Part Number: ISL28113FEZ-T7; Component Type: Integrated Circuit
footprint ren_SC70-5_P5.049 (SC70-5, 5-Leads, Body 2.00x2.10mm, Pitch 0.65mm, IPC Medium Density)
part A pins: 1 IN+ (in), 3 IN- (in), 4 OUT (out)
part B pins: 2 VSS (power), 5 VDD (power)

## ICS-00000017-5
designator U?, comment 74CBTLV3245BQ-Q100
Octal FET Bus Switch, 5 ohm, 0.3ns max delay, DHVQFN20; Manufacturer: Nexperia; Manufacturer Part Number: 74CBTLV3245BQ-Q10X; Current: 128mA; Operating Voltage Max: 3.6V; Operating Voltage Min: 2.3V; Output Voltage Min: 0V; Qualification: AEC-Q100; Operating Temperature Max: 125°C; Operating Temperature Min: -40°C; Output Voltage Max: 3.6V; Pin Count: 21; Subtype: Bus Switch; Component Type: Integrated Circuit
footprint nex_SOT-764-1_DHVQFN20 (plastic, dual in-line compatible thermal enhanced very thin quad flat package; 20 terminals; 0.5 mm pitch; 2.5 mm x 4.5 mm x 0.85 mm body)
pins: 1 NC, 2 A1 (io), 3 A2 (io), 4 A3 (io), 5 A4 (io), 6 A5 (io), 7 A6 (io), 8 A7 (io), 9 A8 (io), 10 GND (power), 11 B8 (io), 12 B7 (io), 13 B6 (io), 14 B5 (io), 15 B4 (io), 16 B3 (io), 17 B2 (io), 18 B1 (io), 19 OE# (in), 20 VCC (power), 21 EPAD (power)

## ICS-00000018-7
designator U?, comment R9A02G011GNP#AC0
USB Power Delivery Controller, USB 3.1, HVQFN32; Manufacturer: Renesas; Frequency: 24MHz; Operating Voltage Max: 5.5V; Operating Voltage Min: 3V; Output Voltage Min: 0V; Subtype: Digital; Operating Temperature Max: 105°C; Operating Temperature Min: -40°C; Output Voltage Max: 5.5V; Pin Count: 33; Qualification: -; Manufacturer Part Number: R9A02G011GNP#AC0; Component Type: Integrated Circuit
footprint ren_HVQFN-32_PVQN0032KG-A (HVQFN-31  5 x 5 x 0.9mm with EPAD, PVQN0032KG-A)
pins: 1 P16 (io), 2 P20 (io), 3 P21 (io), 4 P22 (io), 5 P31 (io), 6 P30 (io), 7 P40 (io), 8 P61 (io), 9 P60 (io), 10 P62 (io), 11 P32 (io), 12 P80 (io), 13 P50 (io), 14 P51 (io), 15 RD1 (io), 16 CC1 (io), 17 CC2 (io), 18 RD2 (io), 19 REGCTX (power), 20 VDD (power), 21 REGC (power), 22 P121 (io), 23 P122 (io), 24 P137 (io), 25 RESET# (in), 26 P70 (in), 27 P71 (io), 28 P72 (io), 29 P73 (io), 30 P81 (io), 31 P82 (io), 32 P17 (io), 33 VSS (power)
1 alternate drawing of the same symbol

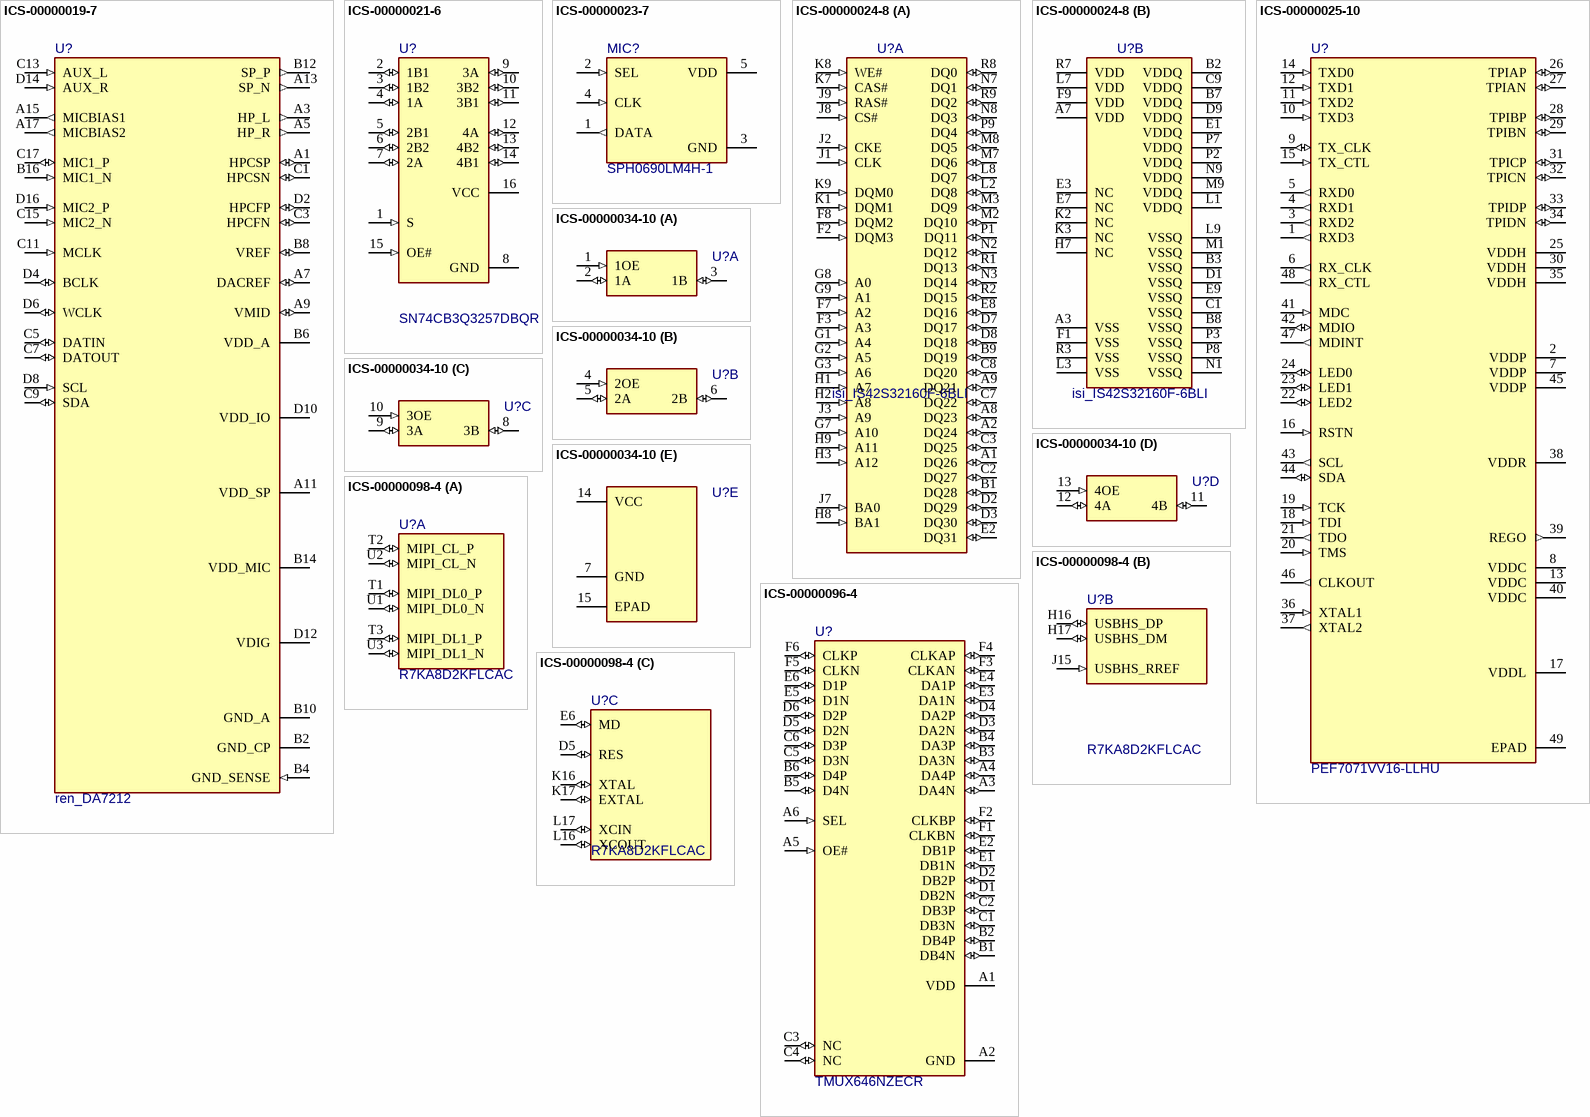
[diagram p2: symbols ICS-00000019-7 to ICS-00000098-4]

## ICS-00000019-7
designator U?, comment ren_DA7212
Ultra-Low Power Stereo Codec; Manufacturer: Renesas; Manufacturer Part Number: DA7212-01UM2; Operating Voltage Max: 5.25V; Operating Voltage Min: 950mV; Subtype: Mixed; Operating Temperature Max: 85°C; Operating Temperature Min: -40°C; Pin Count: 34; Qualification: -; Component Type: Integrated Circuit
footprint ren_34-ball-WL-CSP (34-ball WL-CSP, Body 4.54x1.66mm, staggered 0.5mm pitch)
pins: A1 HPCSP (io), A3 HP_L (out), A5 HP_R (out), A7 DACREF (io), A9 VMID (io), A11 VDD_SP (power), A13 SP_N (out), A15 MICBIAS1 (out), A17 MICBIAS2 (out), B2 GND_CP (power), B4 GND_SENSE (in), B6 VDD_A (power), B8 VREF (io), B10 GND_A (power), B12 SP_P (out), B14 VDD_MIC (power), B16 MIC1_N (in), C1 HPCSN (io), C3 HPCFN (io), C5 DATIN (io), C7 DATOUT (io), C9 SDA (io), C11 MCLK (in), C13 AUX_L (in), C15 MIC2_N (in), C17 MIC1_P (io), D2 HPCFP (io), D4 BCLK (io), D6 WCLK (io), D8 SCL (in), D10 VDD_IO (power), D12 VDIG (power), D14 AUX_R (in), D16 MIC2_P (in)
1 alternate drawing of the same symbol

## ICS-00000021-6
designator U?, comment SN74CB3Q3257DBQR
4-Bit 1-of-2 FET Multiplexer/Demultiplexer 2.5-V/3.3-V Low-Voltage High-Bandwidth Bus Switch; Manufacturer: Texas Instruments; Operating Voltage Min: 2.3V; Output Voltage Min: 0V; Output Voltage Max: 5.5V; Operating Voltage Max: 3.6V; Qualification: -; Operating Temperature Min: -40°C; Operating Temperature Max: 85°C; Pin Count: 16; Subtype: Bus Switch; Manufacturer Part Number: SN74CB3Q3257DBQR; Component Type: Integrated Circuit
footprint ti_SSOP-16_4.9x3.9mm (SOP, 16-Leads, Body 4,91x3,90mm, Pitch 0,64mm, IPC Medium Density)
pins: 1 S (in), 2 1B1 (io), 3 1B2 (io), 4 1A (io), 5 2B1 (io), 6 2B2 (io), 7 2A (io), 8 GND (power), 9 3A (io), 10 3B2 (io), 11 3B1 (io), 12 4A (io), 13 4B2 (io), 14 4B1 (io), 15 OE# (in), 16 VCC (power)
1 alternate drawing of the same symbol

## ICS-00000023-7
designator MIC?, comment SPH0690LM4H-1
Multimode Digital Bottom Port Silicon Digital Microphone with a single bit PDM output; Manufacturer: Knowles Acoustics; Operating Voltage Max: 3.6V; Operating Voltage Min: 1.65V; Subtype: Sensor; Operating Temperature Max: 100°C; Operating Temperature Min: -40°C; Pin Count: 5; Qualification: -; Manufacturer Part Number: SPH0690LM4H-1; Component Type: Integrated Circuit
footprint knw_LGA_3.5x2.65 (LGA, 5 lead, Body: 3.5x2.65mm)
pins: 1 DATA (out), 2 SEL (in), 3 GND (power), 4 CLK (in), 5 VDD (power)

## ICS-00000024-8
designator U?, comment isi_IS42S32160F-6BLI
512Mb Synchronous DRAM, 16MX32, 5.4ns, CMOS, TF-BGA90; Manufacturer: ISSI; Operating Voltage Max: 3.6V; Operating Voltage Min: 2.3V; Subtype: Digital; Operating Temperature Max: 85°C; Operating Temperature Min: -40°C; Pin Count: 90; Qualification: -; Manufacturer Part Number: IS42S32160F-6BLI; Component Type: Integrated Circuit
footprint isi_TF-BGA-90_8x13mm (issi TF-BGA 90 pins 8x13mm Pitch 0.8mm JEDEC MO-207)
part A pins: A1 DQ26 (io), A2 DQ24 (io), A8 DQ23 (io), A9 DQ21 (io), B1 DQ28 (io), B9 DQ19 (io), C2 DQ27 (io), C3 DQ25 (io), C7 DQ22 (io), C8 DQ20 (io), D2 DQ29 (io), D3 DQ30 (io), D7 DQ17 (io), D8 DQ18 (io), E2 DQ31 (io), E8 DQ16 (io), F2 DQM3 (in), F3 A3 (in), F7 A2 (in), F8 DQM2 (in), G1 A4 (in), G2 A5 (in), G3 A6 (in), G7 A10 (in), G8 A0 (in), G9 A1 (in), H1 A7 (in), H2 A8 (in), H3 A12 (in), H8 BA1 (in), H9 A11 (in), J1 CLK (in), J2 CKE (in), J3 A9 (in), J7 BA0 (in), J8 CS# (in), J9 RAS# (in), K1 DQM1 (in), K7 CAS# (in), K8 WE# (in), K9 DQM0 (in), L2 DQ8 (io), L8 DQ7 (io), M2 DQ10 (io), M3 DQ9 (io), M7 DQ6 (io), M8 DQ5 (io), N2 DQ12 (io), N3 DQ14 (io), N7 DQ1 (io), N8 DQ3 (io), P1 DQ11 (io), P9 DQ4 (io), R1 DQ13 (io), R2 DQ15 (io), R8 DQ0 (io), R9 DQ2 (io)
part B pins: A3 VSS (power), A7 VDD (power), B2 VDDQ (power), B3 VSSQ (power), B7 VDDQ (power), B8 VSSQ (power), C1 VSSQ (power), C9 VDDQ (power), D1 VSSQ (power), D9 VDDQ (power), E1 VDDQ (power), E3 NC, E7 NC, E9 VSSQ (power), F1 VSS (power), F9 VDD (power), H7 NC, K2 NC, K3 NC, L1 VDDQ (power), L3 VSS (power), L7 VDD (power), L9 VSSQ (power), M1 VSSQ (power), M9 VDDQ (power), N1 VSSQ (power), N9 VDDQ (power), P2 VDDQ (power), P3 VSSQ (power), P7 VDDQ (power), P8 VSSQ (power), R3 VSS (power), R7 VDD (power)

## ICS-00000025-10
designator U?, comment PEF7071VV16-LLHU
Ethernet Network Connection GPY111 Gigabit Ethernet (GbE); Manufacturer: MaxLinear; Operating Voltage Max: 3.47V; Operating Voltage Min: 2.37V; Subtype: Transceiver; Operating Temperature Min: -40°C; Pin Count: 49; Operating Temperature Max: 85°C; Qualification: -; Manufacturer Part Number: PEF7071VV16-LLHU; Component Type: Integrated Circuit
footprint mxl_PG-VQFN-48_7x7 (VQFN, 48-Leads, Body 7.00x7.00mm, Pitch 0.50mm, Thermal Pad 5,20x5,20mm, IPC Medium Density)
pins: 1 RXD3 (out), 2 VDDP (power), 3 RXD2 (out), 4 RXD1 (out), 5 RXD0 (out), 6 RX_CLK (out), 7 VDDP (power), 8 VDDC (power), 9 TX_CLK (io), 10 TXD3 (in), 11 TXD2 (in), 12 TXD1 (in), 13 VDDC (power), 14 TXD0 (in), 15 TX_CTL (in), 16 RSTN (in), 17 VDDL (power), 18 TDI (in) "JTAG", 19 TCK (in) "JTAG", 20 TMS (in) "JTAG", 21 TDO (out) "JTAG", 22 LED2 (io), 23 LED1 (io), 24 LED0 (io), 25 VDDH (power), 26 TPIAP (io), 27 TPIAN (io), 28 TPIBP (io), 29 TPIBN (io), 30 VDDH (power), 31 TPICP (io), 32 TPICN (io), 33 TPIDP (io), 34 TPIDN (io), 35 VDDH (power), 36 XTAL1 (in), 37 XTAL2 (out), 38 VDDR (power), 39 REGO (out), 40 VDDC (power), 41 MDC (in), 42 MDIO (io), 43 SCL (out), 44 SDA (io), 45 VDDP (power), 46 CLKOUT (out), 47 MDINT (out), 48 RX_CTL (out), 49 EPAD (power)

## ICS-00000034-10
designator U?, comment 74CBTLV3126BQ,115  (value not drawn)
Bus Driver, 4-Func, 1-Bit, True Output, CMOS, DHVQN14, SOT762-1; Manufacturer: Nexperia; Frequency: 406MHz; Subtype: Digital; Current: 100mA; Power: 500mW; Operating Voltage Min: 2.3V; Operating Voltage Max: 3.6V; Pin Count: 15; Operating Temperature Min: -40°C; Qualification: -; Operating Temperature Max: 125°C; Manufacturer Part Number: 74CBTLV3126BQ,115; Component Type: Integrated Circuit
footprint nex_DHVQFN14_SOT-762-1_MO-241 (PQFN, 14-Leads, Body 3,00x2,50mm, Pitch 0,50mm, Thermal Pad 1,50x1,00mm, IPC Medium Density)
part A pins: 1 1OE (in), 2 1A (io), 3 1B (io)
part B pins: 4 2OE (in), 5 2A (io), 6 2B (io)
part C pins: 8 3B (io), 9 3A (io), 10 3OE (in)
part D pins: 11 4B (io), 12 4A (io), 13 4OE (in)
part E pins: 7 GND (power), 14 VCC (power), 15 EPAD (power)

## ICS-00000096-4
designator U?, comment TMUX646NZECR
6-GHz, 5-V, 2: 1 (SPDT) 10-channel MIPI switch with 1.8-V logic support 36-NFBGA -40 to 85; Manufacturer: Texas Instruments; Current: 35mA; Load Capacitance: 1.5pF; Frequency: 6GHz; Operating Voltage Max: 5.5V; Subtype: Bus Switch; Operating Voltage Min: 1.5V; Qualification: -; Operating Temperature Max: 85°C; Operating Temperature Min: -40°C; Pin Count: 36; Manufacturer Part Number: TMUX646NZECR; Component Type: Integrated Circuit
footprint ti_NFBGA-36_ZEC0036A (BGA, 36-Leads, Body 2.45x2.45mmx0.65mm, Pitch 0.40mm)
pins: A1 VDD (power), A2 GND (power), A3 DA4N (io), A4 DA4P (io), A5 OE# (in), A6 SEL (in), B1 DB4N (io), B2 DB4P (io), B3 DA3N (io), B4 DA3P (io), B5 D4N (io), B6 D4P (io), C1 DB3N (io), C2 DB3P (io), C3 NC (io), C4 NC (io), C5 D3N (io), C6 D3P (io), D1 DB2N (io), D2 DB2P (io), D3 DA2N (io), D4 DA2P (io), D5 D2N (io), D6 D2P (io), E1 DB1N (io), E2 DB1P (io), E3 DA1N (io), E4 DA1P (io), E5 D1N (io), E6 D1P (io), F1 CLKBN (io), F2 CLKBP (io), F3 CLKAN (io), F4 CLKAP (io), F5 CLKN (io), F6 CLKP (io)

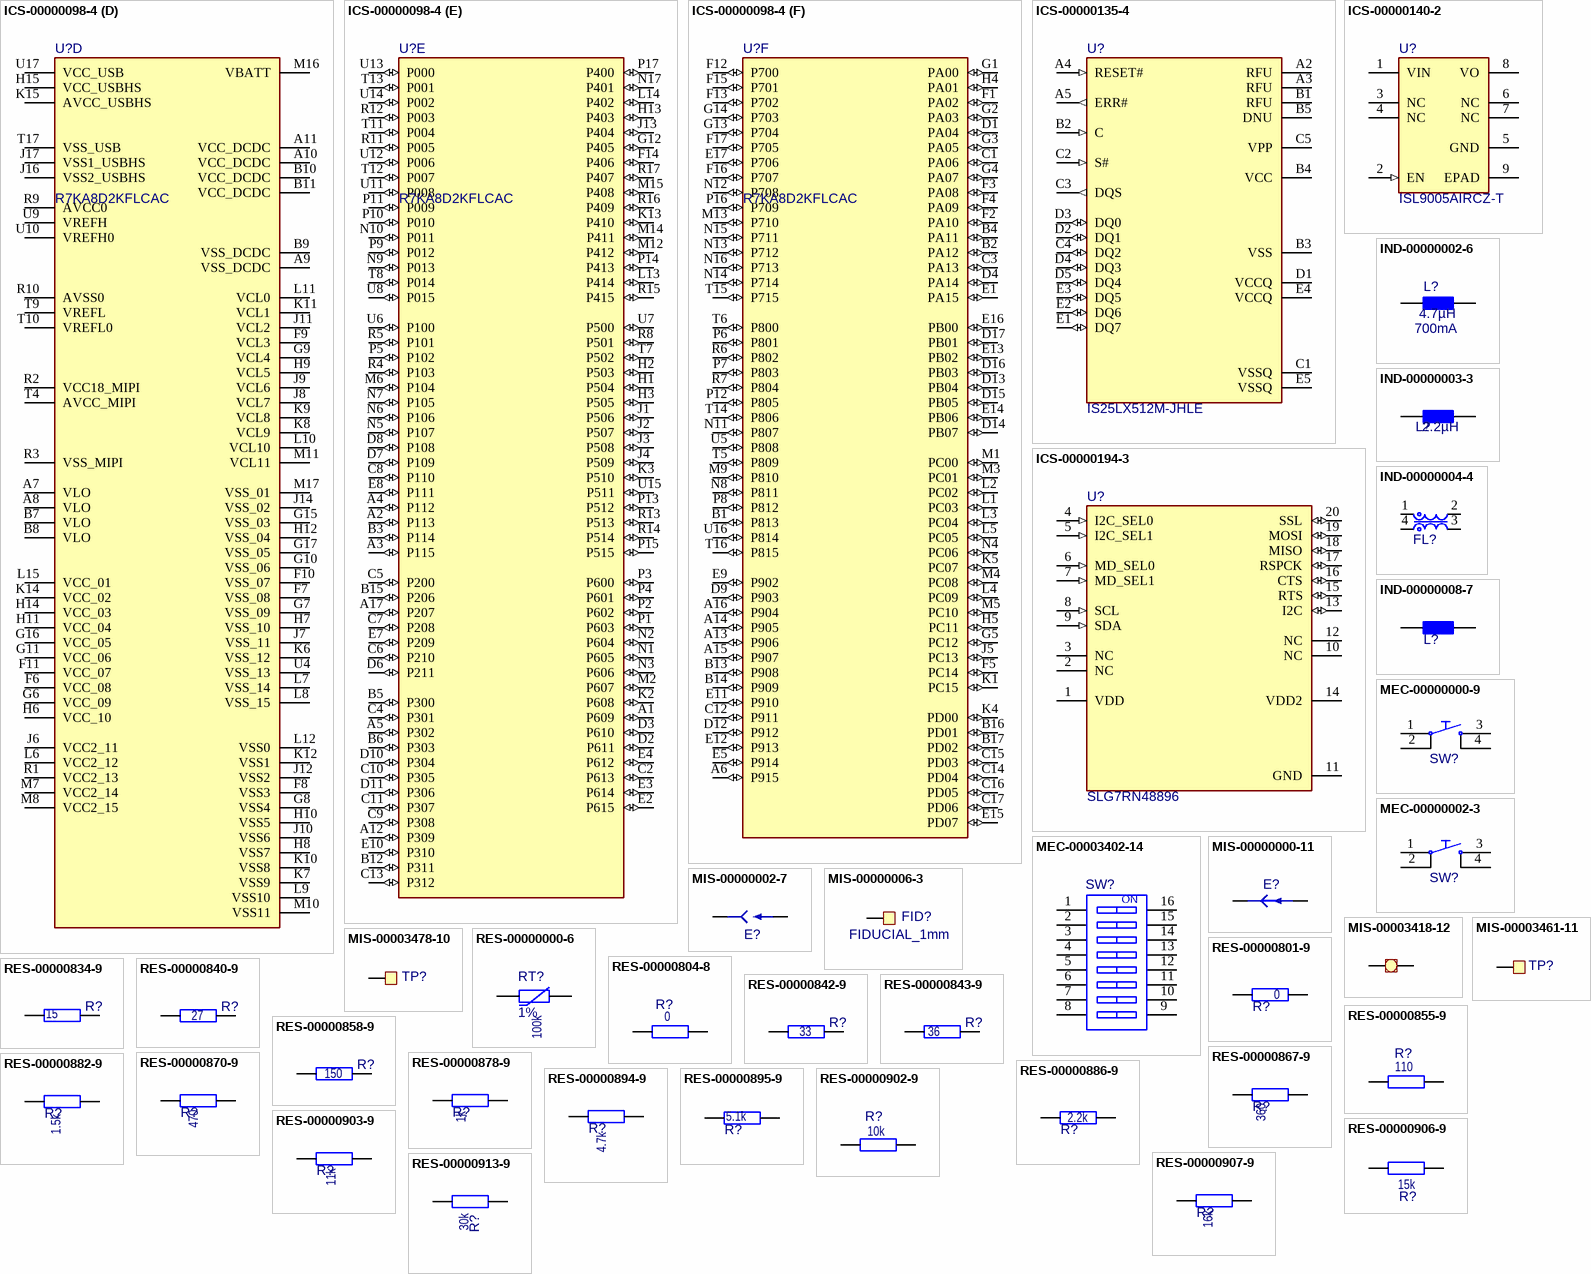
[diagram p3: symbols ICS-00000098-4 to RES-00000913-9]